# Altium footprint library LCD_and_SDCARD_shield.PcbLib: 1 footprints
Each footprint in its own frame and in the unit in brackets; x right, y up, seen from the top. Pads: shape width x height; smd on the part's side, far side on the other; paste and mask are expansions set on the pad; w line width, h text height; cw(c..) or ccw(c..) is an arc to the next point about the centre after c.
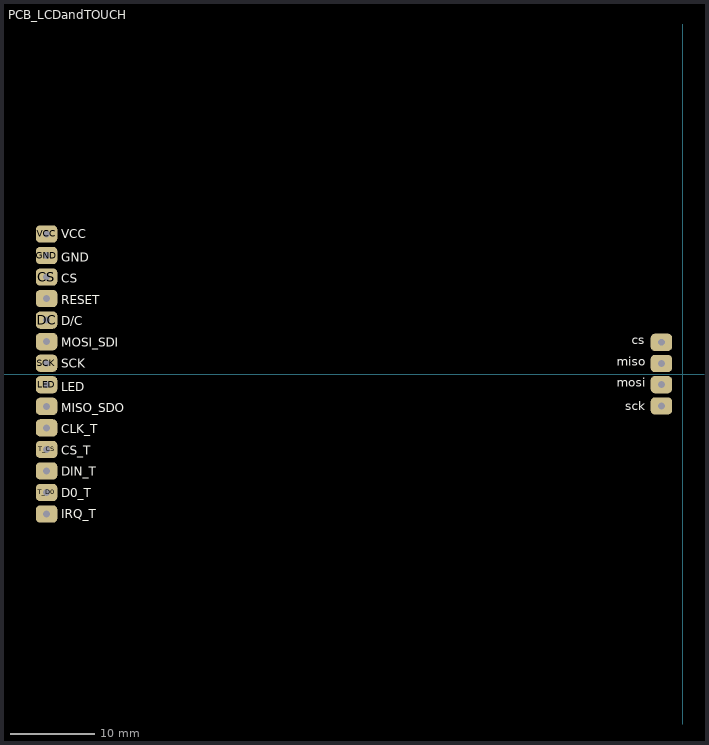
[diagram p0: the footprint, top view; thin cyan lines are the x and y axes]

## PCB_LCDandTOUCH [mil]
pads (18):
  rrect50% 100x80 hole 32: CS(-2952.76,450.39) cs_sd(-98.43,147.64) DC(-2952.76,250.39) GND(-2952.76,550.39) LED(-2952.76,-49.61) miso_sd(-98.43,-49.21) MISO_SDO(-2952.76,-149.61) mosi_sd(-98.43,49.21) MOSI_SDI(-2952.76,150.39) RESET(-2952.76,350.39) SCK(-2952.76,50.39) sck_sd(-98.43,-147.64) T_CLK(-2952.76,-249.61) T_CS(-2952.76,-349.61) T_D0(-2952.76,-549.61) T_DIN(-2952.76,-449.61) T_IRQ(-2952.76,-649.61) VCC(-2952.76,650.39)
Top Overlay:
  text "VCC" at -2883.86,629.92 h40
  text "GND" at -2883.86,521.65 h40
  text "CS" at -2883.86,423.23 h40
  text "RESET" at -2883.86,324.8 h40
  text "D/C" at -2883.86,226.38 h40
  text "MOSI_SDI" at -2883.86,127.95 h40
  text "SCK" at -2883.86,29.53 h40
  text "LED" at -2883.86,-78.74 h40
  text "MISO_SDO" at -2883.86,-177.17 h40
  text "CLK_T" at -2883.86,-275.59 h40
  text "CS_T" at -2883.86,-374.02 h40
  text "DIN_T" at -2883.86,-472.44 h40
  text "D0_T" at -2883.86,-570.87 h40
  text "IRQ_T" at -2883.86,-669.29 h40
  text "sck" at -265.75,-167.32 h40
  text "miso" at -305.12,39.37 h40
  text "mosi" at -305.12,-59.06 h40
  text "cs" at -236.22,137.8 h40
3D body: height 320.04, standoff -231.14, extent -3070.87,-846.46 0,846.45